# Altium footprint library C7461350.PcbLib: 1 footprints
Each footprint in its own frame and in the unit in brackets; x right, y up, seen from the top. Pads: shape width x height; smd on the part's side, far side on the other; paste and mask are expansions set on the pad; w line width, h text height; cw(c..) or ccw(c..) is an arc to the next point about the centre after c.
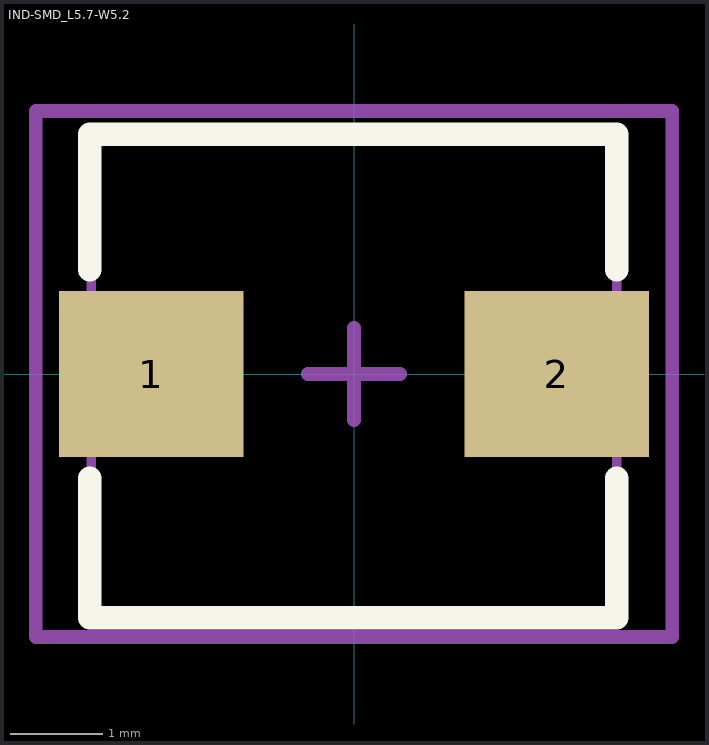
[diagram p0: the footprint, top view; thin cyan lines are the x and y axes]

## IND-SMD_L5.7-W5.2 [mm] "3.5A 6.8uH ±20% 5A 70m? Molded inductor SMD,5.7x5.2mm Fixed Inductors"
pads (2):
  rect 2x1.8 smd: 1(-2.2,0) 2(2.2,0)
Top Overlay:
  circle w0.06: c-2.85,-2.6 r0.03
  lines w0.254: -2.864,-1.131 -2.864,-2.645 2.836,-2.645 ; -2.864,1.131 -2.864,2.6 ; -2.85,2.6 2.85,2.6 2.85,1.131 ; 2.85,-2.645 2.85,-1.131
AOI:
  region: -1.75,-0.75 -2.85,-0.75 -2.85,0.75 -1.75,0.75
  region: 2.85,-0.75 1.75,-0.75 1.75,0.75 2.85,0.75
Top 3D Body:
  lines w0.1: -2.85,-2.6 2.85,-2.6 2.85,2.6 -2.85,2.6 -2.85,-2.6
Top Courtyard:
  lines w0.15: -0.5,0 0.5,0 ; 0,-0.5 0,0.5 ; -3.45,-2.85 3.45,-2.85 3.45,2.85 -3.45,2.85 -3.45,-2.85
3D body "IND-SMD_L5.7-W5.2.step": height 0.03, standoff 0, extent -2.85,-2.6 2.85,2.6